# Altium schematic symbol library Zynq 7000.SchLib: 16 symbols
Pins are listed as number, name and electrical type; pins without a type are passive.

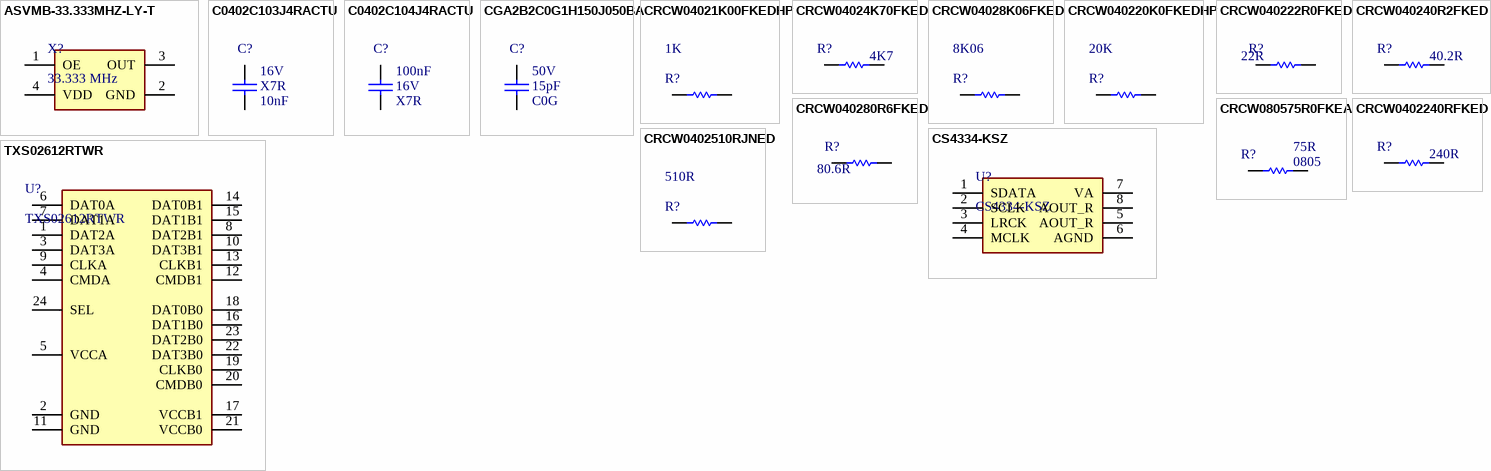
[diagram p0: symbols ASVMB-33.333MHZ-LY-T to TXS02612RTWR]

## ASVMB-33.333MHZ-LY-T
designator X?, comment 33.333 MHz
OSC MEMS 33.333MHZ CMOS SMD; Manufacturer: Abracon; Manufacturer Part Number: ASVMB-33.333MHZ-LY-T; Frequency Stability: 10ppm; Load Capacitance: 15pF; Operating Supply Voltage: 3.3V; Max Supply Current: 16mA; Supplier 1: Digi-Key; RoHS: Yes; Category: Oscillators; Stock 1: 756; Pricing 1: 1=2.96000, 10=2.88800, 50=2.75000, 100=2.40630, 500=2.33750 (USD); Mount: Surface Mount; Case/Package: SMD/SMT; Number of Pins: 4; Min Operating Temperature: -40°C; Max Operating Temperature: 85°C; Frequency: 33.333MHz; Packaging: Tape and Reel; Termination: SMD/SMT; Length: 0.276inch; Height: 0.035inch; Width: 0.197inch; Radiation Hardening: No; ComponentLink1URL: https://datasheet.ciiva.com/869/asvmb-869921.pdf?src-supplier=Digi-Key; ComponentLink1Description: https://datasheet.ciiva.com/869/asvmb-869921.pdf?src-supplier=Digi-Key; ComponentLink2URL: https://datasheet.ciiva.com/869/asvmb-869922.pdf?src-supplier=Digi-Key; ComponentLink2Description: https://datasheet.ciiva.com/869/asvmb-869922.pdf?src-supplier=Digi-Key; ComponentLink3URL: https://datasheet.ciiva.com/869/asvmb-869923.pdf?src-supplier=Digi-Key; ComponentLink3Description: https://datasheet.ciiva.com/869/asvmb-869923.pdf?src-supplier=Digi-Key; ComponentLink4URL: https://datasheet.ciiva.com/3178/asvmb-3178123.pdf?src-supplier=Avnet; ComponentLink4Description: https://datasheet.ciiva.com/3178/asvmb-3178123.pdf?src-supplier=Avnet; Supplier Part Number 1: 535-11208-1-ND
pins: 1 OE, 2 GND, 3 OUT, 4 VDD

## C0402C103J4RACTU
designator C?, comment Dielectric: X7R  Voltage Rating: 16V  Capacitance: 10nF  (hidden comment: 10nF 16V 0402 X7R)
KEMET - C0402C103J4RACTU - SMD Multilayer Ceramic Capacitor, 10000 pF, 16 V, 0402 [1005 Metric], ± 5%, X7R, C Series KEMET; Dissipation Factor: 3.5%; Supplier 1: Digi-Key; Manufacturer: KEMET; Manufacturer Part Number: C0402C103J4RACTU; RoHS: Yes; Category: Ceramic Capacitors; Stock 1: 814650; Pricing 1: 1=0.53000, 10=0.37100, 50=0.25960, 100=0.22250, 500=0.16688, 1000=0.14093, 2500=0.13351, 5000=0.12609 (USD); Mount: Surface Mount,PCB; Case/Package: 0402; Number of Pins: 2; Case Code (Metric): 1005; Case Code (Imperial): 0402; Dielectric Material: Ceramic; Min Operating Temperature: -55°C; Max Operating Temperature: 125°C; Packaging: Tape and Reel; Tolerance: 5%; Package Quantity: 10000; Voltage Rating (DC): 16V; Termination: SMD/SMT; Voltage: 16V; Length: 1mm; Height: 0.5mm; Width: 0.02inch; Thickness: 0.022inch; Depth: 0.5mm; Radiation Hardening: No; REACH SVHC: No SVHC; ComponentLink1URL: https://datasheet.ciiva.com/46448/1851736-46448647.pdf?src-supplier=Element14; ComponentLink1Description: https://datasheet.ciiva.com/46448/1851736-46448647.pdf?src-supplier=Element14; ComponentLink2URL: https://datasheet.ciiva.com/14593/70095383-14593069.pdf?src-supplier=Allied+Electronics; ComponentLink2Description: https://datasheet.ciiva.com/14593/70095383-14593069.pdf?src-supplier=Allied+Electronics; ComponentLink3URL: https://datasheet.ciiva.com/7747/kem-c1002-x7r-smd-7747611.pdf?src-supplier=Element14; ComponentLink3Description: https://datasheet.ciiva.com/7747/kem-c1002-x7r-smd-7747611.pdf?src-supplier=Element14; ComponentLink4URL: https://datasheet.ciiva.com/14604/70095383-14604557.pdf?src-supplier=Allied+Electronics; ComponentLink4Description: https://datasheet.ciiva.com/14604/70095383-14604557.pdf?src-supplier=Allied+Electronics; ComponentLink5URL: https://datasheet.ciiva.com/28645/1851736-28645374.pdf?src-supplier=Element14; ComponentLink5Description: https://datasheet.ciiva.com/28645/1851736-28645374.pdf?src-supplier=Element14; Supplier Part Number 1: 399-1039-1-ND
pins: 1, 2

## C0402C104J4RACTU
designator C?, comment Dielectric: X7R  Voltage Rating: 16V  Capacitance: 100nF  (hidden comment: 100nF 0402 16V)
KEMET - C0402C104J4RACTU - SMD Multilayer Ceramic Capacitor, 0.1 µF, 16 V, 0402 [1005 Metric], ± 5%, X7R, C Series KEMET; Dissipation Factor: 3.5%; Supplier 1: Digi-Key; Manufacturer: KEMET; Manufacturer Part Number: C0402C104J4RACTU; RoHS: Yes; Category: Ceramic Capacitors; Stock 1: 106350; Pricing 1: 1=0.48000, 10=0.33900, 50=0.25620, 100=0.22310, 500=0.16528, 1000=0.14049, 2500=0.13223, 5000=0.12396 (USD); Mount: Surface Mount,PCB; Case/Package: 0402; Case Code (Metric): 1005; Case Code (Imperial): 0402; Dielectric Material: Ceramic; Contact Plating: Tin,Matte; Min Operating Temperature: -55°C; Max Operating Temperature: 125°C; Tolerance: 5%; Packaging: Tape and Reel; Package Quantity: 1; Termination: SMD/SMT; Voltage: 16V; Length: 1mm; Height: 0.5mm; Width: 0.02inch; Thickness: 0.022inch; Depth: 0.5mm; Radiation Hardening: No; REACH SVHC: No SVHC; ComponentLink1URL: https://datasheet.ciiva.com/5415/kem-c1002-x7r-smd-5415819.pdf?src-supplier=Mouser; ComponentLink1Description: https://datasheet.ciiva.com/5415/kem-c1002-x7r-smd-5415819.pdf?src-supplier=Mouser; ComponentLink2URL: https://datasheet.ciiva.com/46424/1851736-46424159.pdf?src-supplier=Element14; ComponentLink2Description: https://datasheet.ciiva.com/46424/1851736-46424159.pdf?src-supplier=Element14; Supplier Part Number 1: 399-7761-1-ND; Voltage Rating (DC): 16V
pins: 1, 2

## CGA2B2C0G1H150J050BA
designator C?, comment Dielectric: C0G  Capacitance: 15pF  Voltage Rating: 50V  (hidden comment: 15 pF 50V C0G)
CAP CER 15PF 50V C0G 0402; Manufacturer: TDK; Manufacturer Part Number: CGA2B2C0G1H150J050BA; Tolerance: 5%; Supplier 1: Digi-Key; RoHS: Yes; Category: Ceramic Capacitors; Stock 1: 21961; Pricing 1: 1=0.10000, 10=0.05700, 50=0.03120, 100=0.02550, 500=0.01820, 1000=0.01429, 2500=0.01299, 5000=0.01195 (USD); Mount: Surface Mount; Case/Package: 0402; Weight: 2.3E-05oz; Case Code (Metric): 1005; Case Code (Imperial): 0402; Min Operating Temperature: -55°C; Max Operating Temperature: 125°C; Packaging: Tape and Reel; Package Quantity: 1; Voltage Rating (DC): 50V; Termination: SMD/SMT; Composition: Ceramic; Length: 1mm; Height: 0.5mm; Width: 0.02inch; Thickness: 0.022inch; Depth: 0.5mm; Ratings: AEC-Q200; Lead Free: Lead Free; REACH SVHC: No SVHC; ComponentLink1URL: https://datasheet.ciiva.com/24216/cga2b2c0g1h150j050ba-266199-24216926.pdf?src-supplier=Mouser; ComponentLink1Description: https://datasheet.ciiva.com/24216/cga2b2c0g1h150j050ba-266199-24216926.pdf?src-supplier=Mouser; Supplier Part Number 1: 445-5586-1-ND
pins: 1, 2

## CRCW04021K00FKEDHP
designator R?, comment Resistance: 1K  (hidden comment: 1K 1/8W 0402 1%)
Res Thick Film 0402 1K Ohm 1% 1/8W 100ppm/C Molded SMD SMD Paper T/R; Manufacturer: Vishay Dale; Manufacturer Part Number: CRCW04021K00FKEDHP; Temperature Coefficient: 100ppm/°C; Max Power Dissipation: 125mW; Voltage Rating: 50V; Supplier 1: Digi-Key; RoHS: Yes; Category: Chip SMD Resistors; Stock 1: 274823; Pricing 1: 1=0.14000, 10=0.12100, 100=0.04670, 1000=0.02053, 2500=0.01773, 5000=0.01586 (USD); Mount: Surface Mount; Case/Package: 0402; Number of Pins: 2; Weight: 2.3E-05oz; Contact Plating: Tin; Case Code (Imperial): 0402; Case Code (Metric): 1005; Min Operating Temperature: -55°C; Max Operating Temperature: 155°C; Tolerance: 1%; Composition: Thick Film; Packaging: Tape and Reel; Package Quantity: 10; Number of Terminations: 2; Features: Automotive AEC-Q200; Power Rating: 125mW; Termination: SMD/SMT; Military Standard: Not; Voltage Rating (DC): 50V; Length: 1mm; Height: 0.3mm; Width: 0.5mm; Depth: 0.5mm; Radiation Hardening: No; Lead Free: Lead Free; REACH SVHC: Unknown; ComponentLink1URL: https://datasheet.ciiva.com/5545/crcwhpe3-46056-5545653.pdf?src-supplier=Mouser; ComponentLink1Description: https://datasheet.ciiva.com/5545/crcwhpe3-46056-5545653.pdf?src-supplier=Mouser; ComponentLink2URL: https://datasheet.ciiva.com/2498/crcwhpe3-2498728.pdf?src-supplier=Digi-Key; ComponentLink2Description: https://datasheet.ciiva.com/2498/crcwhpe3-2498728.pdf?src-supplier=Digi-Key; ComponentLink3URL: https://datasheet.ciiva.com/16436/crcwhpe3-16436184.pdf?src-supplier=Future+Electronics; ComponentLink3Description: https://datasheet.ciiva.com/16436/crcwhpe3-16436184.pdf?src-supplier=Future+Electronics; ComponentLink4URL: https://datasheet.ciiva.com/2498/crcwhpe3-2498729.pdf?src-supplier=Digi-Key; ComponentLink4Description: https://datasheet.ciiva.com/2498/crcwhpe3-2498729.pdf?src-supplier=Digi-Key; ComponentLink5URL: https://datasheet.ciiva.com/2498/crcwhpe3-2498730.pdf?src-supplier=Digi-Key; ComponentLink5Description: https://datasheet.ciiva.com/2498/crcwhpe3-2498730.pdf?src-supplier=Digi-Key; ComponentLink6URL: https://datasheet.ciiva.com/28621/1750852-28621339.pdf?src-supplier=Element14; ComponentLink6Description: https://datasheet.ciiva.com/28621/1750852-28621339.pdf?src-supplier=Element14; ComponentLink7URL: https://datasheet.ciiva.com/3256/crcwhpe3-3256142.pdf?src-supplier=Avnet; ComponentLink7Description: https://datasheet.ciiva.com/3256/crcwhpe3-3256142.pdf?src-supplier=Avnet; Supplier Part Number 1: 541-1.00KYCT-ND
pins: 1, 2

## CRCW04024K70FKED
designator R?, comment Resistance: 4K7  (hidden comment: 4K7 0402 1%)
Resistor SMD 4.7 kOhm 0402 PU=10000 ST, CRCW04024K70FKED, Vishay; Power Rating: 63mW; Temperature Coefficient: 100ppm/°C; Voltage Rating: 50V; Supplier 1: Digi-Key; Manufacturer: Vishay; Manufacturer Part Number: CRCW04024K70FKED; RoHS: Yes; Category: Chip SMD Resistors; Stock 1: 575743; Pricing 1: 1=0.10000, 10=0.03500, 100=0.01410, 1000=0.00633, 2500=0.00550, 5000=0.00454 (USD); Mount: Surface Mount; Case/Package: 0402; Weight: 2.3E-05oz; Contact Plating: Tin; Case Code (Imperial): 0402; Case Code (Metric): 1005; Min Operating Temperature: -55°C; Max Operating Temperature: 155°C; Tolerance: 1%; Composition: Thick Film; Packaging: Tape and Reel; Package Quantity: 10; Termination: SMD/SMT; Military Standard: Not; Voltage Rating (DC): 50V; Number of Terminations: 2; Max Power Dissipation: 63mW; Features: Automotive AEC-Q200; Length: 1mm; Height: 0.35mm; Width: 0.5mm; Depth: 0.5mm; Radiation Hardening: No; Lead Free: Lead Free; REACH SVHC: Unknown; ComponentLink1URL: https://datasheet.ciiva.com/11808/0900766b80d98824-11808622.pdf?src-supplier=RSComponents; ComponentLink1Description: https://datasheet.ciiva.com/11808/0900766b80d98824-11808622.pdf?src-supplier=RSComponents; ComponentLink2URL: https://datasheet.ciiva.com/3256/dcrcwe3-3256597.pdf?src-supplier=Avnet; ComponentLink2Description: https://datasheet.ciiva.com/3256/dcrcwe3-3256597.pdf?src-supplier=Avnet; ComponentLink3URL: https://datasheet.ciiva.com/5550/dcrcwe3-109170-5550295.pdf?src-supplier=Mouser; ComponentLink3Description: https://datasheet.ciiva.com/5550/dcrcwe3-109170-5550295.pdf?src-supplier=Mouser; ComponentLink4URL: https://datasheet.ciiva.com/16764/70201119-16764281.pdf?src-supplier=Allied+Electronics; ComponentLink4Description: https://datasheet.ciiva.com/16764/70201119-16764281.pdf?src-supplier=Allied+Electronics; ComponentLink5URL: https://datasheet.ciiva.com/2463/dcrcwe3-2463034.pdf?src-supplier=Digi-Key; ComponentLink5Description: https://datasheet.ciiva.com/2463/dcrcwe3-2463034.pdf?src-supplier=Digi-Key; ComponentLink6URL: https://datasheet.ciiva.com/16881/dcrcwe3-16881690.pdf?src-supplier=Avnet+Europe; ComponentLink6Description: https://datasheet.ciiva.com/16881/dcrcwe3-16881690.pdf?src-supplier=Avnet+Europe; ComponentLink7URL: https://datasheet.ciiva.com/2463/dcrcwe3-2463035.pdf?src-supplier=Digi-Key; ComponentLink7Description: https://datasheet.ciiva.com/2463/dcrcwe3-2463035.pdf?src-supplier=Digi-Key; ComponentLink8URL: https://datasheet.ciiva.com/8079/1697337-8079643.pdf?src-supplier=Element14; ComponentLink8Description: https://datasheet.ciiva.com/8079/1697337-8079643.pdf?src-supplier=Element14; ComponentLink9URL: https://datasheet.ciiva.com/2463/dcrcwe3-2463036.pdf?src-supplier=Digi-Key; ComponentLink9Description: https://datasheet.ciiva.com/2463/dcrcwe3-2463036.pdf?src-supplier=Digi-Key; ComponentLink10URL: https://datasheet.ciiva.com/26316/fld-crcw-e3-data-en-26316654.pdf?src-supplier=Distrelec; ComponentLink10Description: https://datasheet.ciiva.com/26316/fld-crcw-e3-data-en-26316654.pdf?src-supplier=Distrelec; Supplier Part Number 1: 541-4.70KLCT-ND
pins: 1, 2

## CRCW04028K06FKED
designator R?, comment Resistance: 8K06  (hidden comment: 8K06 0402 1%)
Res Thick Film 0402 8.06K Ohm 1% 0.063W(1/16W) ±100ppm/C Molded SMD Automotive Paper T/R; Manufacturer: Vishay; Manufacturer Part Number: CRCW04028K06FKED; Temperature Coefficient: 100ppm/°C; Power Rating: 63mW; Voltage Rating: 50V; Supplier 1: Digi-Key; RoHS: Yes; Category: Chip SMD Resistors; Stock 1: 12116; Pricing 1: 1=0.10000, 10=0.03500, 100=0.01410, 1000=0.00633, 2500=0.00550, 5000=0.00454 (USD); Mount: Surface Mount; Case/Package: 0402; Number of Pins: 2; Weight: 2.3E-05oz; Contact Plating: Tin; Case Code (Imperial): 0402; Case Code (Metric): 1005; Min Operating Temperature: -55°C; Max Operating Temperature: 155°C; Tolerance: 1%; Composition: Thick Film; Packaging: Tape and Reel; Package Quantity: 10; Number of Terminations: 2; Termination: SMD/SMT; Max Power Dissipation: 63mW; Features: Automotive AEC-Q200; Military Standard: Not; Voltage Rating (DC): 50V; Length: 1mm; Height: 0.35mm; Width: 0.5mm; Depth: 0.5mm; Radiation Hardening: No; Lead Free: Lead Free; REACH SVHC: Unknown; ComponentLink1URL: https://datasheet.ciiva.com/11818/0900766b80d98824-11818119.pdf?src-supplier=RSComponents; ComponentLink1Description: https://datasheet.ciiva.com/11818/0900766b80d98824-11818119.pdf?src-supplier=RSComponents; ComponentLink2URL: https://datasheet.ciiva.com/5542/dcrcwe3-109170-5542949.pdf?src-supplier=Mouser; ComponentLink2Description: https://datasheet.ciiva.com/5542/dcrcwe3-109170-5542949.pdf?src-supplier=Mouser; ComponentLink3URL: https://datasheet.ciiva.com/16767/70201119-16767653.pdf?src-supplier=Allied+Electronics; ComponentLink3Description: https://datasheet.ciiva.com/16767/70201119-16767653.pdf?src-supplier=Allied+Electronics; ComponentLink4URL: https://datasheet.ciiva.com/7690/1533075-7690854.pdf?src-supplier=Element14; ComponentLink4Description: https://datasheet.ciiva.com/7690/1533075-7690854.pdf?src-supplier=Element14; ComponentLink5URL: https://datasheet.ciiva.com/16885/dcrcwe3-16885846.pdf?src-supplier=Avnet+Europe; ComponentLink5Description: https://datasheet.ciiva.com/16885/dcrcwe3-16885846.pdf?src-supplier=Avnet+Europe; ComponentLink6URL: https://datasheet.ciiva.com/2463/dcrcwe3-2463529.pdf?src-supplier=Digi-Key; ComponentLink6Description: https://datasheet.ciiva.com/2463/dcrcwe3-2463529.pdf?src-supplier=Digi-Key; ComponentLink7URL: https://datasheet.ciiva.com/2463/dcrcwe3-2463530.pdf?src-supplier=Digi-Key; ComponentLink7Description: https://datasheet.ciiva.com/2463/dcrcwe3-2463530.pdf?src-supplier=Digi-Key; ComponentLink8URL: https://datasheet.ciiva.com/2463/dcrcwe3-2463531.pdf?src-supplier=Digi-Key; ComponentLink8Description: https://datasheet.ciiva.com/2463/dcrcwe3-2463531.pdf?src-supplier=Digi-Key; ComponentLink9URL: https://datasheet.ciiva.com/7690/1697337-7690701.pdf?src-supplier=Element14; ComponentLink9Description: https://datasheet.ciiva.com/7690/1697337-7690701.pdf?src-supplier=Element14; Supplier Part Number 1: 541-8.06KLCT-ND
pins: 1, 2

## CRCW040220K0FKEDHP
designator R?, comment Resistance: 20K  (hidden comment: 20K 1/8W 1% 0402)
Res Thick Film 0402 20K Ohm 1% 1/8W 100ppm/C Molded SMD SMD Paper T/R; Manufacturer: Vishay Dale; Manufacturer Part Number: CRCW040220K0FKEDHP; Temperature Coefficient: 100ppm/°C; Voltage Rating: 50V; Max Power Dissipation: 125mW; Supplier 1: Digi-Key; RoHS: Yes; Category: Chip SMD Resistors; Stock 1: 24303; Pricing 1: 1=0.14000, 10=0.12100, 100=0.04670, 1000=0.02053, 2500=0.01773, 5000=0.01586 (USD); Mount: Surface Mount; Case/Package: 0402; Weight: 2.3E-05oz; Contact Plating: Tin; Case Code (Metric): 1005; Case Code (Imperial): 0402; Min Operating Temperature: -55°C; Max Operating Temperature: 155°C; Composition: Thick Film; Tolerance: 1%; Packaging: Tape and Reel; Features: Automotive AEC-Q200; Number of Terminations: 2; Termination: SMD/SMT; Package Quantity: 10; Power Rating: 125mW; Length: 1mm; Height: 0.3mm; Depth: 0.5mm; Width: 0.02inch; Radiation Hardening: No; Lead Free: Lead Free; ComponentLink1URL: https://datasheet.ciiva.com/2498/crcwhpe3-2498725.pdf?src-supplier=Digi-Key; ComponentLink1Description: https://datasheet.ciiva.com/2498/crcwhpe3-2498725.pdf?src-supplier=Digi-Key; ComponentLink2URL: https://datasheet.ciiva.com/2498/crcwhpe3-2498726.pdf?src-supplier=Digi-Key; ComponentLink2Description: https://datasheet.ciiva.com/2498/crcwhpe3-2498726.pdf?src-supplier=Digi-Key; ComponentLink3URL: https://datasheet.ciiva.com/5552/crcwhpe3-46056-5552662.pdf?src-supplier=Mouser; ComponentLink3Description: https://datasheet.ciiva.com/5552/crcwhpe3-46056-5552662.pdf?src-supplier=Mouser; ComponentLink4URL: https://datasheet.ciiva.com/2498/crcwhpe3-2498727.pdf?src-supplier=Digi-Key; ComponentLink4Description: https://datasheet.ciiva.com/2498/crcwhpe3-2498727.pdf?src-supplier=Digi-Key; ComponentLink5URL: https://datasheet.ciiva.com/9033/crcwhpe3-9033402.pdf?src-supplier=Avnet; ComponentLink5Description: https://datasheet.ciiva.com/9033/crcwhpe3-9033402.pdf?src-supplier=Avnet; ComponentLink6URL: https://datasheet.ciiva.com/48526/crcwhpe3-48526365.pdf?src-supplier=Avnet; ComponentLink6Description: https://datasheet.ciiva.com/48526/crcwhpe3-48526365.pdf?src-supplier=Avnet; ComponentLink7URL: https://datasheet.ciiva.com/16886/crcwhpe3-16886590.pdf?src-supplier=Avnet+Europe; ComponentLink7Description: https://datasheet.ciiva.com/16886/crcwhpe3-16886590.pdf?src-supplier=Avnet+Europe; Supplier Part Number 1: 541-20.0KYCT-ND
pins: 1, 2

## CRCW040222R0FKED
designator R?, comment Resistance: 22R  (hidden comment: 22R 0402 1%)
VISHAY - CRCW040222R0FKED. - Resistor Case Style:0402 [1005 Metric]; Temperature Coefficient: 100ppm/°C; Power Rating: 63mW; Voltage Rating: 50V; Supplier 1: Newark; Manufacturer: Vishay; Manufacturer Part Number: CRCW040222R0FKED; RoHS: Yes; Category: Chip SMD Resistors; Stock 1: 410000; Pricing 1: 1=0.00800, 5000=0.00800, 10000=0.00600 (USD); Mount: Surface Mount; Case/Package: 0402; Weight: 2.3E-05oz; Contact Plating: Tin; Case Code (Metric): 1005; Case Code (Imperial): 0402; Min Operating Temperature: -55°C; Max Operating Temperature: 155°C; Tolerance: 1%; Composition: Thick Film; Packaging: Tape and Reel; Package Quantity: 10; Number of Terminations: 2; Termination: SMD/SMT; Military Standard: Not; Max Power Dissipation: 63mW; Voltage Rating (DC): 50V; Features: Automotive AEC-Q200; Length: 1mm; Height: 0.35mm; Width: 0.02inch; Depth: 0.5mm; Radiation Hardening: No; Lead Free: Lead Free; REACH SVHC: Unknown; ComponentLink1URL: https://datasheet.ciiva.com/11809/0900766b80d98824-11809869.pdf?src-supplier=RSComponents; ComponentLink1Description: https://datasheet.ciiva.com/11809/0900766b80d98824-11809869.pdf?src-supplier=RSComponents; ComponentLink2URL: https://datasheet.ciiva.com/3256/dcrcwe3-3256249.pdf?src-supplier=Avnet; ComponentLink2Description: https://datasheet.ciiva.com/3256/dcrcwe3-3256249.pdf?src-supplier=Avnet; ComponentLink3URL: https://datasheet.ciiva.com/5552/dcrcwe3-109170-5552201.pdf?src-supplier=Mouser; ComponentLink3Description: https://datasheet.ciiva.com/5552/dcrcwe3-109170-5552201.pdf?src-supplier=Mouser; ComponentLink4URL: https://datasheet.ciiva.com/3256/dcrcwe3-3256250.pdf?src-supplier=Avnet; ComponentLink4Description: https://datasheet.ciiva.com/3256/dcrcwe3-3256250.pdf?src-supplier=Avnet; ComponentLink5URL: https://datasheet.ciiva.com/16776/70201119-16776426.pdf?src-supplier=Allied+Electronics; ComponentLink5Description: https://datasheet.ciiva.com/16776/70201119-16776426.pdf?src-supplier=Allied+Electronics; ComponentLink6URL: https://datasheet.ciiva.com/26316/fld-crcw-e3-data-en-26316666.pdf?src-supplier=Distrelec; ComponentLink6Description: https://datasheet.ciiva.com/26316/fld-crcw-e3-data-en-26316666.pdf?src-supplier=Distrelec; ComponentLink7URL: https://datasheet.ciiva.com/16886/dcrcwe3-16886668.pdf?src-supplier=Avnet+Europe; ComponentLink7Description: https://datasheet.ciiva.com/16886/dcrcwe3-16886668.pdf?src-supplier=Avnet+Europe; ComponentLink8URL: https://datasheet.ciiva.com/7672/1697337-7672781.pdf?src-supplier=Element14; ComponentLink8Description: https://datasheet.ciiva.com/7672/1697337-7672781.pdf?src-supplier=Element14; ComponentLink9URL: https://datasheet.ciiva.com/7672/1697337-7672782.pdf?src-supplier=Element14; ComponentLink9Description: https://datasheet.ciiva.com/7672/1697337-7672782.pdf?src-supplier=Element14; ComponentLink10URL: https://datasheet.ciiva.com/2463/dcrcwe3-2463091.pdf?src-supplier=Digi-Key; ComponentLink10Description: https://datasheet.ciiva.com/2463/dcrcwe3-2463091.pdf?src-supplier=Digi-Key; ComponentLink11URL: https://datasheet.ciiva.com/2463/dcrcwe3-2463092.pdf?src-supplier=Digi-Key; ComponentLink11Description: https://datasheet.ciiva.com/2463/dcrcwe3-2463092.pdf?src-supplier=Digi-Key; ComponentLink12URL: https://datasheet.ciiva.com/2463/dcrcwe3-2463093.pdf?src-supplier=Digi-Key; ComponentLink12Description: https://datasheet.ciiva.com/2463/dcrcwe3-2463093.pdf?src-supplier=Digi-Key; ComponentLink13URL: https://datasheet.ciiva.com/16396/dcrcwe3-16396918.pdf?src-supplier=Future+Electronics; ComponentLink13Description: https://datasheet.ciiva.com/16396/dcrcwe3-16396918.pdf?src-supplier=Future+Electronics; Supplier Part Number 1: 24W2102
pins: 1, 2

## CRCW040240R2FKED
designator R?, comment Resistance: 40.2R  (hidden comment: 40R2 1% 0402)
RES SMD 40.2 OHM 1% 1/16W 0402; Manufacturer: Vishay; Manufacturer Part Number: CRCW040240R2FKED; Temperature Coefficient: 100ppm/°C; Power Rating: 63mW; Voltage Rating: 50V; Supplier 1: Digi-Key; RoHS: Yes; Category: Chip SMD Resistors; Stock 1: 50000; Pricing 1: 1=0.10000, 10=0.03500, 100=0.01410, 1000=0.00633, 2500=0.00550, 5000=0.00454 (USD); Mount: Surface Mount; Number of Pins: 2; Weight: 2.3E-05oz; Contact Plating: Tin; Case Code (Metric): 1005; Case Code (Imperial): 0402; Min Operating Temperature: -55°C; Max Operating Temperature: 155°C; Tolerance: 1%; Composition: Thick Film; Packaging: Tape and Reel; Termination: SMD/SMT; Package Quantity: 10; Number of Terminations: 2; Max Power Dissipation: 63mW; Features: Automotive AEC-Q200; Military Standard: Not; Voltage Rating (DC): 50V; Length: 1mm; Height: 0.35mm; Width: 0.02inch; Depth: 0.5mm; Radiation Hardening: No; Lead Free: Lead Free; REACH SVHC: Unknown; ComponentLink1URL: https://datasheet.ciiva.com/11818/0900766b80d98824-11818096.pdf?src-supplier=RSComponents; ComponentLink1Description: https://datasheet.ciiva.com/11818/0900766b80d98824-11818096.pdf?src-supplier=RSComponents; ComponentLink2URL: https://datasheet.ciiva.com/2463/dcrcwe3-2463936.pdf?src-supplier=Digi-Key; ComponentLink2Description: https://datasheet.ciiva.com/2463/dcrcwe3-2463936.pdf?src-supplier=Digi-Key; ComponentLink3URL: https://datasheet.ciiva.com/7732/1697337-7732005.pdf?src-supplier=Element14; ComponentLink3Description: https://datasheet.ciiva.com/7732/1697337-7732005.pdf?src-supplier=Element14; ComponentLink4URL: https://datasheet.ciiva.com/16882/dcrcwe3-16882343.pdf?src-supplier=Avnet+Europe; ComponentLink4Description: https://datasheet.ciiva.com/16882/dcrcwe3-16882343.pdf?src-supplier=Avnet+Europe; ComponentLink5URL: https://datasheet.ciiva.com/16784/70201119-16784936.pdf?src-supplier=Allied+Electronics; ComponentLink5Description: https://datasheet.ciiva.com/16784/70201119-16784936.pdf?src-supplier=Allied+Electronics; ComponentLink6URL: https://datasheet.ciiva.com/3256/dcrcwe3-3256507.pdf?src-supplier=Avnet; ComponentLink6Description: https://datasheet.ciiva.com/3256/dcrcwe3-3256507.pdf?src-supplier=Avnet; ComponentLink7URL: https://datasheet.ciiva.com/22872/70201119-22872251.pdf?src-supplier=Allied+Electronics; ComponentLink7Description: https://datasheet.ciiva.com/22872/70201119-22872251.pdf?src-supplier=Allied+Electronics; ComponentLink8URL: https://datasheet.ciiva.com/2463/dcrcwe3-2463934.pdf?src-supplier=Digi-Key; ComponentLink8Description: https://datasheet.ciiva.com/2463/dcrcwe3-2463934.pdf?src-supplier=Digi-Key; ComponentLink9URL: https://datasheet.ciiva.com/2463/dcrcwe3-2463935.pdf?src-supplier=Digi-Key; ComponentLink9Description: https://datasheet.ciiva.com/2463/dcrcwe3-2463935.pdf?src-supplier=Digi-Key; Supplier Part Number 1: 541-40.2LDKR-ND; Case/Package: 0402
pins: 1, 2

## CRCW040280R6FKED
designator R?, comment Resistance: 80.6R  (hidden comment: 80.6R 0402 1%)
VISHAY         CRCW040280R6FKED             SMD Chip Resistor, Thick Film, 80.6 ohm, 50 V, 0402 [1005 Metric], 63 mW,  1%, CRCW Series; Temperature Coefficient: 100ppm/°C; Voltage Rating (DC): 50V; Power Rating: 63mW; Supplier 1: Newark; Manufacturer: Vishay; Manufacturer Part Number: CRCW040280R6FKED; RoHS: Yes; Category: Chip SMD Resistors; Stock 1: 15023; Pricing 1: 1=0.00300, 25=0.00300, 100=0.00300, 250=0.00300, 500=0.00300, 1000=0.00300 (USD); Weight: 2.3E-05oz; Case Code (Imperial): 0402; Case Code (Metric): 1005; Contact Plating: Tin; Min Operating Temperature: -55°C; Max Operating Temperature: 155°C; Packaging: Tape and Reel; Composition: Thick Film; Number of Terminations: 2; Package Quantity: 10; Max Power Dissipation: 63mW; Voltage Rating: 50V; Termination: SMD/SMT; Features: Automotive AEC-Q200; Military Standard: Not; Length: 1mm; Height: 0.35mm; Width: 0.5mm; Depth: 0.5mm; Radiation Hardening: No; Lead Free: Lead Free; REACH SVHC: Unknown; ComponentLink1URL: https://datasheet.ciiva.com/16761/70201119-16761304.pdf?src-supplier=Allied+Electronics; ComponentLink1Description: https://datasheet.ciiva.com/16761/70201119-16761304.pdf?src-supplier=Allied+Electronics; ComponentLink2URL: https://datasheet.ciiva.com/2463/dcrcwe3-2463676.pdf?src-supplier=Digi-Key; ComponentLink2Description: https://datasheet.ciiva.com/2463/dcrcwe3-2463676.pdf?src-supplier=Digi-Key; ComponentLink3URL: https://datasheet.ciiva.com/2463/dcrcwe3-2463677.pdf?src-supplier=Digi-Key; ComponentLink3Description: https://datasheet.ciiva.com/2463/dcrcwe3-2463677.pdf?src-supplier=Digi-Key; ComponentLink4URL: https://datasheet.ciiva.com/7822/1697337-7822957.pdf?src-supplier=Element14; ComponentLink4Description: https://datasheet.ciiva.com/7822/1697337-7822957.pdf?src-supplier=Element14; ComponentLink5URL: https://datasheet.ciiva.com/2463/dcrcwe3-2463678.pdf?src-supplier=Digi-Key; ComponentLink5Description: https://datasheet.ciiva.com/2463/dcrcwe3-2463678.pdf?src-supplier=Digi-Key; ComponentLink6URL: https://datasheet.ciiva.com/7823/1697337-7823166.pdf?src-supplier=Element14; ComponentLink6Description: https://datasheet.ciiva.com/7823/1697337-7823166.pdf?src-supplier=Element14; Supplier Part Number 1: 52K7297; Tolerance: 1%; Case/Package: 0402
pins: 1, 2

## CRCW080575R0FKEA
designator R?, comment Case Code (Imperial): 0805  Resistance: 75R  (hidden comment: 75R 0805)
VISHAY - CRCW080575R0FKEA - Chipwiderstand, Oberflächenmontage, Dickschicht, 0805 [Metrisch 2012], 75 ohm, Baureihe CRCW, 150 V; Tolerance: 1%; Temperature Coefficient: 100ppm/°C; Power Rating: 125mW; Voltage Rating: 150V; Supplier 1: Digi-Key; Manufacturer: Vishay; Manufacturer Part Number: CRCW080575R0FKEA; RoHS: Yes; Category: Chip SMD Resistors; Stock 1: 74647; Pricing 1: 1=0.10000, 10=0.05700, 100=0.02310, 1000=0.01039, 2500=0.00902 (USD); Case/Package: 0805; Contact Plating: Tin; Case Code (Metric): 2012; Weight: 0.000194oz; Min Operating Temperature: -55°C; Max Operating Temperature: 155°C; Resistor Type: Thick Film; Packaging: Tape and Reel; Package Quantity: 10; Number of Terminations: 2; Max Power Dissipation: 125mW; Features: Automotive AEC-Q200; Termination: SMD/SMT; Voltage Rating (DC): 150V; Length: 2mm; Width: 0.049inch; Height: 0.45mm; Depth: 1.25mm; Lead Free: Lead Free; Military Standard: Not; REACH SVHC: Unknown; ComponentLink1URL: https://datasheet.ciiva.com/11811/0900766b80d98b26-11811307.pdf?src-supplier=RSComponents; ComponentLink1Description: https://datasheet.ciiva.com/11811/0900766b80d98b26-11811307.pdf?src-supplier=RSComponents; ComponentLink2URL: https://datasheet.ciiva.com/2495/dcrcwe3-2495665.pdf?src-supplier=Digi-Key; ComponentLink2Description: https://datasheet.ciiva.com/2495/dcrcwe3-2495665.pdf?src-supplier=Digi-Key; ComponentLink3URL: https://datasheet.ciiva.com/7673/1697337-7673495.pdf?src-supplier=Element14; ComponentLink3Description: https://datasheet.ciiva.com/7673/1697337-7673495.pdf?src-supplier=Element14; ComponentLink4URL: https://datasheet.ciiva.com/26316/fld-crcw-e3-data-en-26316535.pdf?src-supplier=Distrelec; ComponentLink4Description: https://datasheet.ciiva.com/26316/fld-crcw-e3-data-en-26316535.pdf?src-supplier=Distrelec; ComponentLink5URL: https://datasheet.ciiva.com/2495/dcrcwe3-2495666.pdf?src-supplier=Digi-Key; ComponentLink5Description: https://datasheet.ciiva.com/2495/dcrcwe3-2495666.pdf?src-supplier=Digi-Key; ComponentLink6URL: https://datasheet.ciiva.com/7673/1697337-7673369.pdf?src-supplier=Element14; ComponentLink6Description: https://datasheet.ciiva.com/7673/1697337-7673369.pdf?src-supplier=Element14; ComponentLink7URL: https://datasheet.ciiva.com/16763/70201119-16763292.pdf?src-supplier=Allied+Electronics; ComponentLink7Description: https://datasheet.ciiva.com/16763/70201119-16763292.pdf?src-supplier=Allied+Electronics; ComponentLink8URL: https://datasheet.ciiva.com/5542/dcrcwe3-109170-5542910.pdf?src-supplier=Mouser; ComponentLink8Description: https://datasheet.ciiva.com/5542/dcrcwe3-109170-5542910.pdf?src-supplier=Mouser; ComponentLink9URL: https://datasheet.ciiva.com/2495/dcrcwe3-2495667.pdf?src-supplier=Digi-Key; ComponentLink9Description: https://datasheet.ciiva.com/2495/dcrcwe3-2495667.pdf?src-supplier=Digi-Key; Supplier Part Number 1: 541-75.0CCT-ND
pins: 1, 2

## CRCW0402240RFKED
designator R?, comment Resistance: 240R  (hidden comment: 240R 0402 1%)
RES SMD 240 OHM 1% 1/16W 0402; Manufacturer: Vishay; Manufacturer Part Number: CRCW0402240RFKED; Temperature Coefficient: 100ppm/°C; Power Rating: 63mW; Voltage Rating: 50V; Supplier 1: Digi-Key; RoHS: Yes; Category: Chip SMD Resistors; Stock 1: 41893; Pricing 1: 1=0.10000, 10=0.03500, 100=0.01410, 1000=0.00633, 2500=0.00550, 5000=0.00454 (USD); Mount: Surface Mount; Case/Package: 0402; Weight: 2.3E-05oz; Contact Plating: Tin; Case Code (Metric): 1005; Case Code (Imperial): 0402; Min Operating Temperature: -55°C; Max Operating Temperature: 155°C; Composition: Thick Film; Termination: SMD/SMT; Packaging: Tape and Reel; Package Quantity: 10; Number of Terminations: 2; Max Power Dissipation: 63mW; Features: Automotive AEC-Q200; Military Standard: Not; Voltage Rating (DC): 50V; Working Voltage: 50V; Length: 1mm; Height: 0.35mm; Width: 0.02inch; Depth: 0.5mm; Radiation Hardening: No; Lead Free: Lead Free; REACH SVHC: Unknown; ComponentLink1URL: https://datasheet.ciiva.com/11809/0900766b80d98824-11809853.pdf?src-supplier=RSComponents; ComponentLink1Description: https://datasheet.ciiva.com/11809/0900766b80d98824-11809853.pdf?src-supplier=RSComponents; ComponentLink2URL: https://datasheet.ciiva.com/16886/dcrcwe3-16886728.pdf?src-supplier=Avnet+Europe; ComponentLink2Description: https://datasheet.ciiva.com/16886/dcrcwe3-16886728.pdf?src-supplier=Avnet+Europe; ComponentLink3URL: https://datasheet.ciiva.com/2463/dcrcwe3-2463067.pdf?src-supplier=Digi-Key; ComponentLink3Description: https://datasheet.ciiva.com/2463/dcrcwe3-2463067.pdf?src-supplier=Digi-Key; ComponentLink4URL: https://datasheet.ciiva.com/2463/dcrcwe3-2463068.pdf?src-supplier=Digi-Key; ComponentLink4Description: https://datasheet.ciiva.com/2463/dcrcwe3-2463068.pdf?src-supplier=Digi-Key; ComponentLink5URL: https://datasheet.ciiva.com/2463/dcrcwe3-2463069.pdf?src-supplier=Digi-Key; ComponentLink5Description: https://datasheet.ciiva.com/2463/dcrcwe3-2463069.pdf?src-supplier=Digi-Key; ComponentLink6URL: https://datasheet.ciiva.com/8954/dcrcwe3-8954621.pdf?src-supplier=Avnet; ComponentLink6Description: https://datasheet.ciiva.com/8954/dcrcwe3-8954621.pdf?src-supplier=Avnet; ComponentLink7URL: https://datasheet.ciiva.com/16204/dcrcwe3-16204941.pdf?src-supplier=Future+Electronics; ComponentLink7Description: https://datasheet.ciiva.com/16204/dcrcwe3-16204941.pdf?src-supplier=Future+Electronics; ComponentLink8URL: https://datasheet.ciiva.com/5546/dcrcwe3-109170-5546510.pdf?src-supplier=Mouser; ComponentLink8Description: https://datasheet.ciiva.com/5546/dcrcwe3-109170-5546510.pdf?src-supplier=Mouser; ComponentLink9URL: https://datasheet.ciiva.com/16780/70201119-16780206.pdf?src-supplier=Allied+Electronics; ComponentLink9Description: https://datasheet.ciiva.com/16780/70201119-16780206.pdf?src-supplier=Allied+Electronics; ComponentLink10URL: https://datasheet.ciiva.com/16784/70201119-16784686.pdf?src-supplier=Allied+Electronics; ComponentLink10Description: https://datasheet.ciiva.com/16784/70201119-16784686.pdf?src-supplier=Allied+Electronics; Supplier Part Number 1: 541-240LCT-ND; Tolerance: 1%
pins: 1, 2

## CRCW0402510RJNED
designator R?, comment Resistance: 510R  (hidden comment: 0402 0.063W)
CRCW Series 0402 0.063 W 510 Ohm ±5 % ±200 ppm/K SMT Thick Film Chip Resistor; Manufacturer: Vishay Dale; Manufacturer Part Number: CRCW0402510RJNED; Tolerance: 5%; Temperature Coefficient: 200ppm/°C; Power Rating: 63mW; Voltage Rating (DC): 50V; Supplier 1: Digi-Key; RoHS: Yes; Category: Chip SMD Resistors; Stock 1: 16371; Pricing 1: 1=0.10000, 10=0.02800, 100=0.01140, 1000=0.00511, 2500=0.00444, 5000=0.00367 (USD); Case/Package: 0402; Number of Pins: 2; Contact Plating: Tin; Case Code (Metric): 1005; Weight: 2.3E-05oz; Min Operating Temperature: -55°C; Max Operating Temperature: 155°C; Resistor Type: Thick Film; Packaging: Tape and Reel; Package Quantity: 1; Number of Terminations: 2; Max Power Dissipation: 63mW; Features: Automotive AEC-Q200; Termination: SMD/SMT; Voltage Rating: 50V; Length: 1mm; Width: 0.02inch; Height: 0.016inch; Depth: 0.5mm; Radiation Hardening: No; Lead Free: Lead Free; Military Standard: Not; REACH SVHC: Unknown; ComponentLink1URL: https://datasheet.ciiva.com/3256/dcrcwe3-3256614.pdf?src-supplier=Avnet; ComponentLink1Description: https://datasheet.ciiva.com/3256/dcrcwe3-3256614.pdf?src-supplier=Avnet; ComponentLink2URL: https://datasheet.ciiva.com/3256/dcrcwe3-3256615.pdf?src-supplier=Avnet; ComponentLink2Description: https://datasheet.ciiva.com/3256/dcrcwe3-3256615.pdf?src-supplier=Avnet; ComponentLink3URL: https://datasheet.ciiva.com/2493/dcrcwe3-2493643.pdf?src-supplier=Digi-Key; ComponentLink3Description: https://datasheet.ciiva.com/2493/dcrcwe3-2493643.pdf?src-supplier=Digi-Key; ComponentLink4URL: https://datasheet.ciiva.com/2493/dcrcwe3-2493644.pdf?src-supplier=Digi-Key; ComponentLink4Description: https://datasheet.ciiva.com/2493/dcrcwe3-2493644.pdf?src-supplier=Digi-Key; ComponentLink5URL: https://datasheet.ciiva.com/2493/dcrcwe3-2493645.pdf?src-supplier=Digi-Key; ComponentLink5Description: https://datasheet.ciiva.com/2493/dcrcwe3-2493645.pdf?src-supplier=Digi-Key; ComponentLink6URL: https://datasheet.ciiva.com/5547/dcrcwe3-109170-5547358.pdf?src-supplier=Mouser; ComponentLink6Description: https://datasheet.ciiva.com/5547/dcrcwe3-109170-5547358.pdf?src-supplier=Mouser; Supplier Part Number 1: 541-510JCT-ND; Case Code (Imperial): 0402
pins: 1, 2

## CS4334-KSZ
designator U?
CIRRUS LOGIC         CS4334-KSZ             Digital to Analogue Converter, 24 bit, 96 kSPS, Serial, 4.75V to 5.5V, SOIC, 8 Pins; Resolution: 24b; Interface: Serial,SPI; Number of Converters: 2; Output Type: Voltage; Number of Bits: 24; Conversion Rate: 96KS/s; Operating Supply Voltage: 5V; Differential Output: No; Polarity: Bipolar; Supply Type: Single; Max Power Dissipation: 104mW; Nominal Supply Current: 15mA; Supplier 1: Digi-Key; Manufacturer: Cirrus Logic; Manufacturer Part Number: CS4334-KSZ; RoHS: Yes; Category: Digital to Analog Converters (DACs); Stock 1: 1138; Pricing 1: 1=2.81000, 10=2.52300, 25=2.38520, 100=1.96100, 250=1.75960, 500=1.69600, 1000=1.40980, 2500=1.35680, 5000=1.31440 (USD); Mount: Surface Mount; Case/Package: SOIC; Number of Pins: 8; Weight: 0.019048oz; Contact Plating: Tin,Matte; Min Operating Temperature: -10°C; Max Operating Temperature: 70°C; Packaging: Rail/Tube; Package Quantity: 100; Max Supply Voltage: 5.5V; Min Supply Voltage: 4.75V; Sampling Rate: 96KS/s; Number of Channels: 2; Number of D/A Converters: 2; Number of DAC Channels: 2; Termination: SMD/SMT; Length: 5mm; Height: 1.5mm; Width: 4mm; Lead Free: Lead Free; REACH SVHC: No SVHC; ComponentLink1URL: https://datasheet.ciiva.com/1502/88351-1502945.pdf?src-supplier=Farnell; ComponentLink1Description: https://datasheet.ciiva.com/1502/88351-1502945.pdf?src-supplier=Farnell; ComponentLink2URL: https://datasheet.ciiva.com/1597/4334-1597119.pdf?src-supplier=Newark; ComponentLink2Description: https://datasheet.ciiva.com/1597/4334-1597119.pdf?src-supplier=Newark; ComponentLink3URL: https://datasheet.ciiva.com/26805/cs4334-ksz-26805019.pdf?src-supplier=IIIC; ComponentLink3Description: https://datasheet.ciiva.com/26805/cs4334-ksz-26805019.pdf?src-supplier=IIIC; ComponentLink4URL: https://datasheet.ciiva.com/3041/cs4334-5-8-9-f6-3041079.pdf?src-supplier=Avnet; ComponentLink4Description: https://datasheet.ciiva.com/3041/cs4334-5-8-9-f6-3041079.pdf?src-supplier=Avnet; ComponentLink5URL: https://datasheet.ciiva.com/1494/88351-1494219.pdf?src-supplier=Element14; ComponentLink5Description: https://datasheet.ciiva.com/1494/88351-1494219.pdf?src-supplier=Element14; ComponentLink6URL: https://datasheet.ciiva.com/6665/cs4334-5-8-9-f6-6665806.pdf?src-supplier=Digi-Key; ComponentLink6Description: https://datasheet.ciiva.com/6665/cs4334-5-8-9-f6-6665806.pdf?src-supplier=Digi-Key; Supplier Part Number 1: 598-1046-5-ND
pins: 1 SDATA, 2 SCLK, 3 LRCK, 4 MCLK, 5 AOUT_R, 6 AGND, 7 VA, 8 AOUT_R

## TXS02612RTWR
designator U?
TEXAS INSTRUMENTS - TXS02612RTWR - SDIO EXPANDER W/VOLT TRANSLATOR, WQFN-24; Number of Outputs: 12; Number of Bits: 4; Min Supply Voltage: 1.1V; Max Supply Voltage: 3.6V; Operating Supply Current: 36uA; Frequency: 60MHz; Supplier 1: Digi-Key; Manufacturer: Texas Instruments; Manufacturer Part Number: TXS02612RTWR; RoHS: Yes; Category: Interface ICs; Stock 1: 12167; Pricing 1: 1=1.37000, 10=1.22100, 25=1.15920, 100=0.89010, 250=0.78660, 500=0.74520, 1000=0.57960 (USD); Mount: Surface Mount; Number of Pins: 24; Contact Plating: Gold; Min Operating Temperature: -40°C; Max Operating Temperature: 85°C; Packaging: Tape and Reel; Package Quantity: 1; Interface: SDIO; Length: 4.15mm; Height: 0.75mm; Width: 4.15mm; Radiation Hardening: No; Lead Free: Lead Free; REACH SVHC: No SVHC; ComponentLink1URL: https://datasheet.ciiva.com/1784/txs02612-1784272.pdf?src-supplier=Digi-Key; ComponentLink1Description: https://datasheet.ciiva.com/1784/txs02612-1784272.pdf?src-supplier=Digi-Key; ComponentLink2URL: https://datasheet.ciiva.com/22652/1723912-22652098.pdf?src-supplier=Element14; ComponentLink2Description: https://datasheet.ciiva.com/22652/1723912-22652098.pdf?src-supplier=Element14; ComponentLink3URL: https://datasheet.ciiva.com/15134/getdatasheetpartid-225882-15134505.pdf?src-supplier=Verical; ComponentLink3Description: https://datasheet.ciiva.com/15134/getdatasheetpartid-225882-15134505.pdf?src-supplier=Verical; ComponentLink4URL: https://datasheet.ciiva.com/14194/txs02612-14194898.pdf?src-supplier=Avnet; ComponentLink4Description: https://datasheet.ciiva.com/14194/txs02612-14194898.pdf?src-supplier=Avnet; ComponentLink5URL: https://datasheet.ciiva.com/41460/001188030-da-01-en-ic-sdio-port-ex-txs02612rtwr-wqfn-24-tid-41460267.pdf?src-supplier=Conrad; ComponentLink5Description: https://datasheet.ciiva.com/41460/001188030-da-01-en-ic-sdio-port-ex-txs02612rtwr-wqfn-24-tid-41460267.pdf?src-supplier=Conrad; Supplier Part Number 1: 296-23869-1-ND
pins: 1 DAT2A "Data bit 2. Referenced to VCCA.", 2 GND "Ground", 3 DAT3A "Data bit 3. Referenced to VCCA.", 4 CMDA "Command bit. Referenced to VCCA.", 5 VCCA "A-port supply voltage. 1.1 V ≤ VCCA ≤ 3.6 V.", 6 DAT0A "Data bit 0. Referenced to VCCA.", 7 DAT1A "Data bit 1. Referenced to VCCA.", 8 DAT2B1 "Data bit 2. Referenced to VCCB1.", 9 CLKA "Clock input A. Referenced to VCCA.", 10 DAT3B1 "Data bit 3. Referenced to VCCB1.", 11 GND "Ground", 12 CMDB1 "Command bit. Referenced to VCCB1.", 13 CLKB1 "Clock output. Referenced to VCCB1.", 14 DAT0B1 "Data bit 0. Referenced to VCCB1.", 15 DAT1B1 "Data bit 1. Referenced to VCCB1.", 16 DAT1B0 "Data bit 1. Referenced to VCCB0.", 17 VCCB1 "B1-port supply voltage. 1.1 V ≤ VCCB1 ≤ 3.6 V.", 18 DAT0B0 "Data bit 0. Referenced to VCCB0.", 19 CLKB0 "Clock output. Referenced to VCCB0.", 20 CMDB0 "Command bit. Referenced to VCCB0.", 21 VCCB0 "B0-port supply voltage. 1.1 V ≤ VCCB0 ≤ 3.6 V.", 22 DAT3B0 "Data bit 3. Referenced to VCCB0.", 23 DAT2B0 "Data bit 2. Referenced to VCCB0.", 24 SEL "Select pin to choose between B0 and B1. Referenced to VCCA."